# Altium footprint library Optoisolator.PcbLib: 1 footprints
Each footprint in its own frame and in the unit in brackets; x right, y up, seen from the top. Pads: shape width x height; smd on the part's side, far side on the other; paste and mask are expansions set on the pad; w line width, h text height; cw(c..) or ccw(c..) is an arc to the next point about the centre after c.
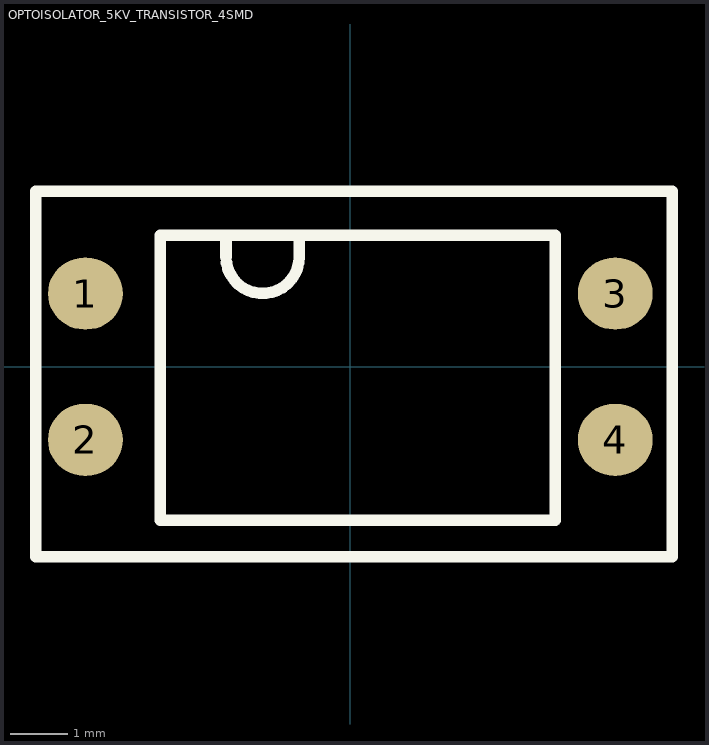
[diagram p0: the footprint, top view; thin cyan lines are the x and y axes]

## OPTOISOLATOR_5KV_TRANSISTOR_4SMD [mm]
pads (4):
  oval 1.3x1.25 smd: 1(-4.6,1.27) 2(-4.6,-1.27) 3(4.6,1.27) 4(4.6,-1.27)
Top Overlay:
  lines w0.2: -2.159,1.905 ccw(c-1.524,1.905) -0.889,1.905 ; -2.159,1.93 -2.159,2.286 ; -0.889,1.93 -0.889,2.286 ; -5.461,-3.302 5.588,-3.302 5.588,3.048 -5.461,3.048 -5.461,-3.302 ; -3.302,-2.667 3.556,-2.667 3.556,2.286 -3.302,2.286 -3.302,-2.667
3D body "User Library-DIP4_opto_iso.step": height 3.9, standoff 0, extent -5.015,-2.416 5.015,2.416